# Altium schematic symbol library LM386.SchLib: 1 symbol
Pins are listed as number, name and electrical type; pins without a type are passive.

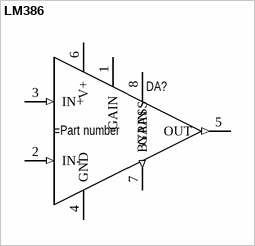
[diagram p0: symbol LM386]

## LM386
designator DA?
Low Voltage Audio Power Amplifier
pins: 1 GAIN, 2 IN- (in), 3 IN+ (in), 4 GND (power), 5 OUT (out), 6 V+ (power), 7 BYPASS (out), 8 GAIN